# EAGLE library part LUCKFOX_CORE_RV1106 (library Core1106-SMT-full)
The Core1106 is a core board based on the Rockchip RV1106 series chips, featuring high performance and high expandability, provides a convenient platform for developers to design their own hardware, enabling quick design verification or direct integration into products, thereby shortening the R&D cycle. Adapting various interfaces via castellated holes, such as MIPI CSI, RGB LCD, GPIO, UART, SPI, I2C, USB, Ethernet port, and SDIO, etc. which is suitable for a variety of application scenarios. Optional for wireless module, with two core options of RV1106G2 and RV1106G3 to meet different needs. Specs: Connectivity Bluetooth Bluetooth 5.2/BLE (optional) Ethernet 10/100M Wi-Fi 2.4 GHz WIFI 6 (optional) Memory and Storage eMMC 8GB Memory 128MB/256MB SOC Features ISP 5MP@30fps NPU 0.5TOPS/1TOPS Processor Cortex A7 @1.2GHz Video Encoding Hardware encoding, supports MJPEG, H264, H265 Interfaces & Peripherals Audio Ouput LINEOUT × 1 Camera Interface MIPI CSI 2-lane × 2, MIPI CSI 4-lane × 1 Display Interface Parallel RGB 18-bit × 1 GPIO 112 Pin USB USB 2.0 Host/Device Others Operating Temp. -10°C ~ 80°C Power input 5V DC
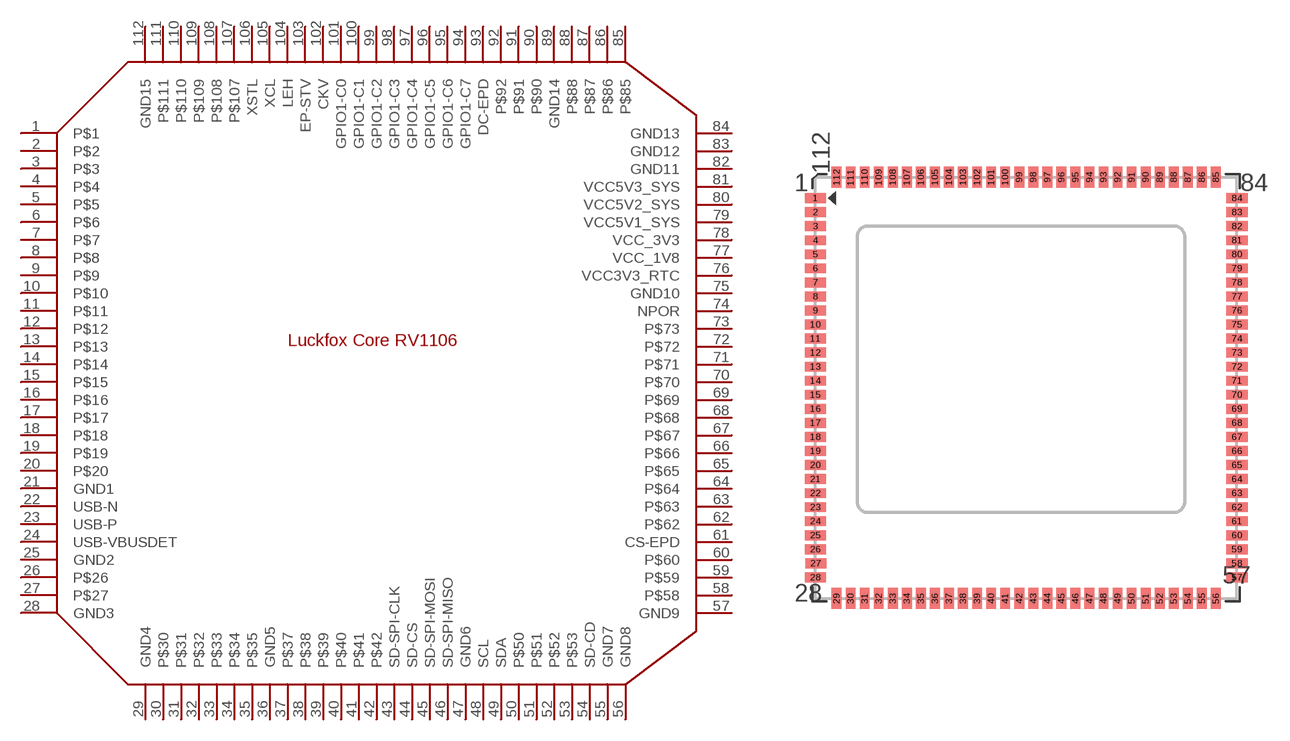
[diagram p0: symbol with the pads of CORE1106-SMT; footprint CORE1106-SMT]

Designator prefix -

## LUCKFOX_CORE_RV1106 (DESCRIPTION: Core1106 is a core board based on the Rockchip RV1106 series chips, it features a 128MB-256MB DDR3 RAM, on board Wifi & and BLE, onboard 8GB eMMC Storage, and a rich GPIO pins for expandability.; DOCUMENTATION: visit the Luckfox core Wiki: http://https://wiki.luckfox.com/Core1106/ for more resources for this board.; MF: Luckfox Systems; MP: LuckFox Core1106; PACKAGE: as a high integrated module, it comes in a SoM, 112 pins with 1 ml spacing castellated holes.)  [CORE1106-SMT]
1  P$1
2  P$2
3  P$3
4  P$4
5  P$5
6  P$6
7  P$7
8  P$8
9  P$9
10  P$10
11  P$11
12  P$12
13  P$13
14  P$14
15  P$15
16  P$16
17  P$17
18  P$18
19  P$19
20  P$20
21  GND1
22  USB-N
23  USB-P
24  USB-VBUSDET
25  GND2  out
26  P$26
27  P$27
28  GND3
29  GND4
30  P$30
31  P$31
32  P$32
33  P$33
34  P$34
35  P$35
36  GND5
37  P$37
38  P$38
39  P$39
40  P$40
41  P$41
42  P$42
43  SD-SPI-CLK
44  SD-CS
45  SD-SPI-MOSI
46  SD-SPI-MISO
47  GND6
48  SCL
49  SDA
50  P$50
51  P$51
52  P$52
53  P$53
54  SD-CD
55  GND7
56  GND8
57  GND9
58  P$58
59  P$59
60  P$60
61  CS-EPD
62  P$62
63  P$63
64  P$64
65  P$65
66  P$66
67  P$67
68  P$68
69  P$69
70  P$70
71  P$71
72  P$72
73  P$73
74  NPOR
75  GND10
76  VCC3V3_RTC  pwr
77  VCC_1V8  out
78  VCC_3V3  out
79  VCC5V1_SYS  pwr
80  VCC5V2_SYS
81  VCC5V3_SYS
82  GND11
83  GND12
84  GND13
85  P$85
86  P$86
87  P$87
88  P$88
89  GND14
90  P$90
91  P$91
92  P$92
93  DC-EPD
94  GPIO1-C7
95  GPIO1-C6
96  GPIO1-C5
97  GPIO1-C4
98  GPIO1-C3
99  GPIO1-C2
100  GPIO1-C1
101  GPIO1-C0
102  CKV
103  EP-STV
104  LEH
105  XCL
106  XSTL
107  P$107
108  P$108
109  P$109
110  P$110
111  P$111
112  GND15

## Footprint CORE1106-SMT (pad centres in mm)
Luckfox Core RV1106: The Core1106 is a core board based on the Rockchip RV1106 series chips, featuring high performance and high expandability, provides a convenient platform for developers to design their own hardware, enabling quick design verification or direct integration into products, thereby shortening the R&D cycle. Adapting various interfaces via castellated holes, such as MIPI CSI, RGB LCD, GPIO, UART, SPI, I2C, USB, Ethernet port, and SDIO, etc. which is suitable for a variety of application scenarios. Optional for wireless module, with two core options of RV1106G2 and RV1106G3 to meet different needs. Single-core ARM Cortex-A7 32-bit core with integrated NEON and FPU Built-in Rockchip self-developed 4th generation NPU, features high computing precision and supports int4, int8, and int16 hybrid quantization. The int8 computing power of RV1106G3 is 1TOPS, and RV1106G2 is 0.5TOPS Built-in self-developed third-generation ISP3.2, supports 5-Megapixel, with multiple image enhancement and correction algorithms such as HDR, WDR, multi-level noise reduction, etc. Features powerful encoding performance, supports intelligent encoding mode and adaptive stream saving according to the scene, which can save more than 50% bit rate of the conventional CBR mode, enabling high-definition video quality while efficiently utilizing storage space Built-in 16-bit DRAM DDR3L, which is capable of sustaining demanding memory bandwidths
smd 1.5 x 0.7: 1 -15,13.5; 2 -15,12.5; 3 -15,11.5; 4 -15,10.5; 5 -15,9.5; 6 -15,8.5; 7 -15,7.5; 8 -15,6.5; 9 -15,5.5; 10 -15,4.5; 11 -15,3.5; 12 -15,2.5; 13 -15,1.5; 14 -15,0.5; 15 -15,-0.5; 16 -15,-1.5; 17 -15,-2.5; 18 -15,-3.5; 19 -15,-4.5; 20 -15,-5.5; 21 -15,-6.5; 22 -15,-7.5; 23 -15,-8.5; 24 -15,-9.5; 25 -15,-10.5; 26 -15,-11.5; 27 -14.978,-12.5; 28 -15,-13.5; 57 15,-13.5; 58 15,-12.5; 59 15,-11.5; 60 15,-10.5; 61 15,-9.5; 62 15,-8.5; 63 15,-7.5; 64 15,-6.5; 65 15,-5.5; 66 15,-4.5; 67 15,-3.5; 68 15,-2.5; 69 15,-1.5; 70 15,-0.5; 71 15,0.5; 72 15,1.5; 73 15,2.5; 74 15,3.5; 75 15,4.5; 76 15,5.5; 77 15,6.5; 78 15,7.5; 79 15,8.5; 80 15,9.5; 81 15,10.5; 82 15,11.5; 83 15,12.5; 84 15,13.5
smd 0.7 x 1.5: 29 -13.5,-15; 30 -12.5,-15; 31 -11.5,-15; 32 -10.5,-15; 33 -9.5,-15; 34 -8.5,-15; 35 -7.5,-15; 36 -6.5,-15; 37 -5.5,-15; 38 -4.5,-15; 39 -3.5,-15; 40 -2.5,-15; 41 -1.5,-15; 42 -0.5,-15; 43 0.5,-15; 44 1.5,-15; 45 2.5,-15; 46 3.5,-15; 47 4.5,-15; 48 5.5,-15; 49 6.5,-15; 50 7.5,-15; 51 8.5,-15; 52 9.5,-15; 53 10.5,-15; 54 11.5,-15; 55 12.5,-14.978; 56 13.5,-15; 85 13.5,15; 86 12.5,15; 87 11.5,15; 88 10.5,15; 89 9.5,15; 90 8.5,15; 91 7.5,15; 92 6.5,15; 93 5.5,15; 94 4.5,15; 95 3.5,15; 96 2.5,15; 97 1.5,15; 98 0.5,15; 99 -0.5,15; 100 -1.5,15; 101 -2.5,15; 102 -3.5,15; 103 -4.5,15; 104 -5.5,15; 105 -6.5,15; 106 -7.5,15; 107 -8.5,15; 108 -9.5,15; 109 -10.5,15; 110 -11.5,15; 111 -12.5,14.978; 112 -13.5,15